# Altium footprint library QFN50P300X300X90-17T150X150N.PcbLib: 1 footprints
Each footprint in its own frame and in the unit in brackets; x right, y up, seen from the top. Pads: shape width x height; smd on the part's side, far side on the other; paste and mask are expansions set on the pad; w line width, h text height; cw(c..) or ccw(c..) is an arc to the next point about the centre after c.
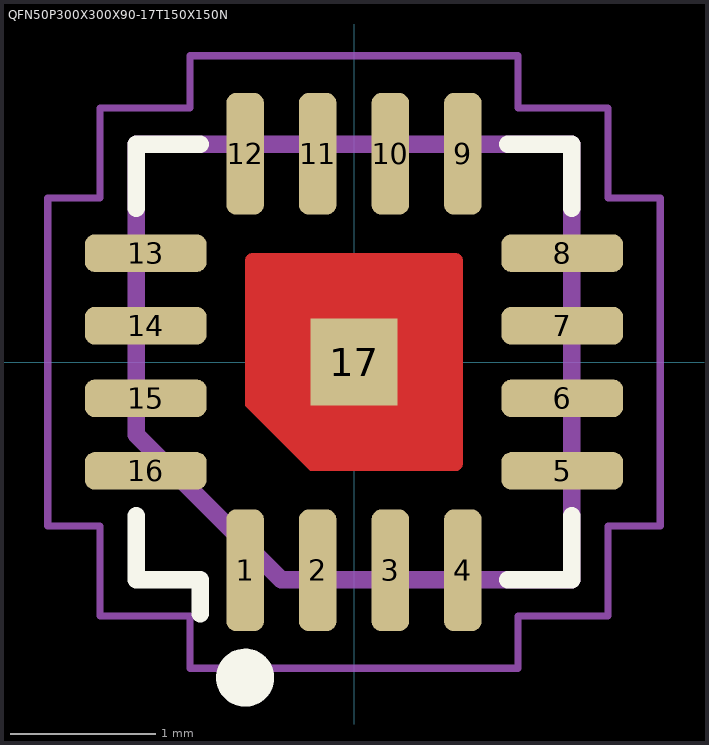
[diagram p0: the footprint, top view; thin cyan lines are the x and y axes]

## QFN50P300X300X90-17T150X150N [mm] "Quad Flat No-Lead (QFN with Tab), 0.50 mm pitch; square, 4 pin X 4 pin, 3.00 mm L X 3.00 mm W X 0.90 mm H body"
height 0.9
pads (17):
  rrect54% 0.26x0.84 smd: 1(-0.75,-1.435) 2(-0.25,-1.435) 3(0.25,-1.435) 4(0.75,-1.435) 9(0.75,1.435) 10(0.25,1.435) 11(-0.25,1.435) 12(-0.75,1.435)
  rrect54% 0.84x0.26 smd: 5(1.435,-0.75) 6(1.435,-0.25) 7(1.435,0.25) 8(1.435,0.75) 13(-1.435,0.75) 14(-1.435,0.25) 15(-1.435,-0.25) 16(-1.435,-0.75)
  rect 0.6x0.6 smd paste-0.6 mask+0: 17(0,0)
Top Layer:
  region: 0.75,0 0.75,-0.7 0.749,-0.708 0.748,-0.716 0.745,-0.723 0.74,-0.729 0.735,-0.735 0.729,-0.74 0.723,-0.745 0.716,-0.748 0.708,-0.749 -0.3,-0.75 -0.75,-0.3 -0.75,0.7 -0.749,0.708 -0.748,0.716 -0.745,0.723 -0.74,0.729 -0.735,0.735 -0.729,0.74 -0.723,0.745 -0.716,0.748 -0.708,0.749 0.7,0.75 0.708,0.749 0.716,0.748 0.723,0.745 0.729,0.74 0.735,0.735 0.74,0.729 0.745,0.723 0.748,0.716 0.749,0.708 0.75,0.7
Top Overlay:
  circle w0.2: c-0.75,-2.175 r0.1
  lines w0.12: -1.5,-1.06 -1.5,-1.5 -1.06,-1.5 -1.06,-1.735 ; -1.5,1.06 -1.5,1.5 -1.06,1.5 ; 1.06,-1.5 1.5,-1.5 1.5,-1.06 ; 1.06,1.5 1.5,1.5 1.5,1.06
Top Paste:
  region: 0.605,-0.605 0.075,-0.605 0.075,-0.075 0.605,-0.075
  region: 0.605,0.075 0.075,0.075 0.075,0.605 0.605,0.605
  region: -0.075,-0.525 -0.525,-0.525 -0.525,-0.075 -0.075,-0.075
  region: -0.075,0.075 -0.605,0.075 -0.605,0.605 -0.075,0.605
Top Solder:
  region: 0.75,0 0.75,-0.7 0.749,-0.708 0.748,-0.716 0.745,-0.723 0.74,-0.729 0.735,-0.735 0.729,-0.74 0.723,-0.745 0.716,-0.748 0.708,-0.749 -0.3,-0.75 -0.75,-0.3 -0.75,0.7 -0.749,0.708 -0.748,0.716 -0.745,0.723 -0.74,0.729 -0.735,0.735 -0.729,0.74 -0.723,0.745 -0.716,0.748 -0.708,0.749 0.7,0.75 0.708,0.749 0.716,0.748 0.723,0.745 0.729,0.74 0.735,0.735 0.74,0.729 0.745,0.723 0.748,0.716 0.749,0.708 0.75,0.7
Fab - Detail1, HDI1:
  lines w0.12: -1.5,-0.5 -0.5,-1.5 1.5,-1.5 1.5,1.5 -1.5,1.5 -1.5,-0.5
Courtyards/Models - Top:
  circle w0.05: c0,0 r0.25
  lines w0.05: -0.35,0 0.35,0 ; 0,-0.35 0,0.35 ; -2.11,-1.13 -2.11,1.13 -1.75,1.13 -1.75,1.75 -1.13,1.75 -1.13,2.11 1.13,2.11 1.13,1.75 1.75,1.75 1.75,1.13 2.11,1.13 2.11,-1.13 1.75,-1.13 1.75,-1.75 1.13,-1.75 1.13,-2.11 -1.13,-2.11 -1.13,-1.75 -1.75,-1.75 -1.75,-1.13 -2.11,-1.13
3D body: height 0.97, standoff -0.03, extent -1.51,-1.51 1.51,1.51